# Altium integrated library NEC Peripheral LCD Controller.IntLib: 3 symbols
Pins are listed as number, name and electrical type; pins without a type are passive.

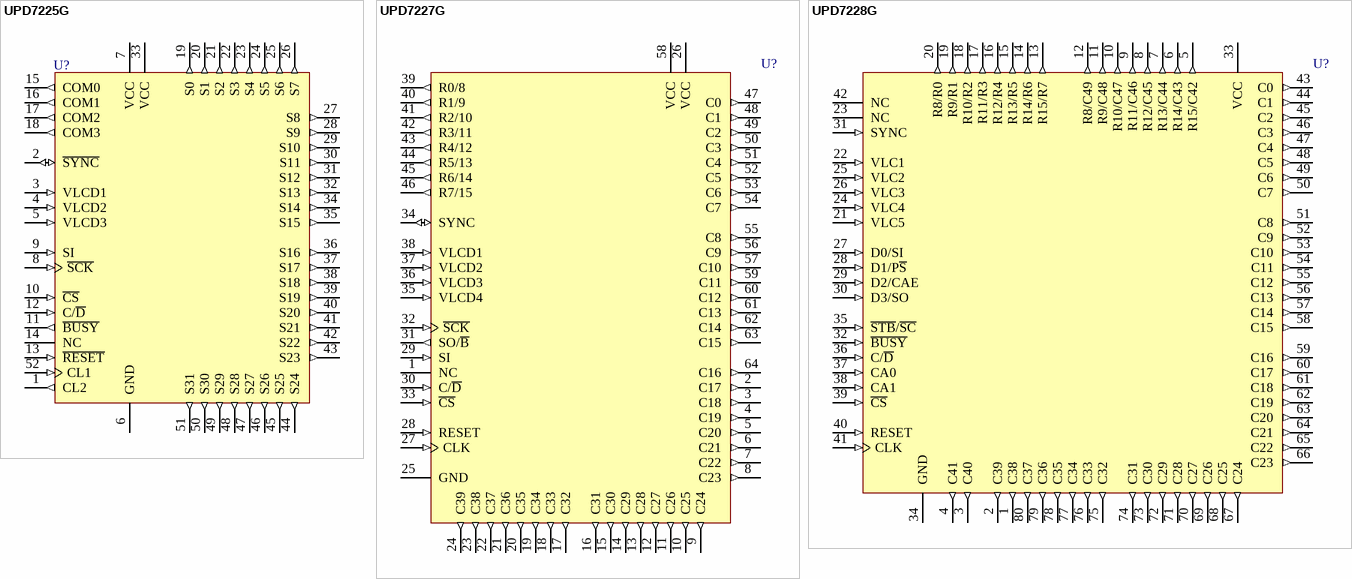
[diagram p0: symbols UPD7225G to UPD7228G]

## UPD7225G
designator U?
Intelligent Alphanumeric LCD Controller/Driver; Note: Pin(s) 14 "No Connection" and not drawn.; Published: 8-Jun-2000; LatestRevisionDate: 13-Apr-2006; LatestRevisionNote: IPC-7351 Footprint Added.; DatasheetVersion: 1984; PackageReference: PMF52; Publisher: Altium Limited; PackageDescription: 52-Pin Quad Flat Pack 1 mm Pitch; ComponentLink1Description: Manufacturer Link; ComponentLink1URL: http://www.necel.com/
footprint PMF52_N (QFP, 52-Leads, Body 14x14mm, Pitch 1mm, IPC Medium Density)
footprint PMF52_L (QFP, 52-Leads, Body 14x14mm, Pitch 1mm, IPC High Density)
footprint PMF52_M (QFP, 52-Leads, Body 14x14mm, Pitch 1mm, IPC Low Density)
pins: 1 CL2 (out), 2 ~{SYNC} (io), 3 VLCD1 (in), 4 VLCD2 (in), 5 VLCD3 (in), 6 GND (power), 7 VCC (power), 8 ~{SCK} (in), 9 SI (in), 10 ~{CS} (in), 11 ~{BUSY} (out), 12 C/~{D} (in), 13 ~{RESET} (in), 14 NC, 15 COM0 (out), 16 COM1 (out), 17 COM2 (out), 18 COM3 (out), 19 S0 (out), 20 S1 (out), 21 S2 (out), 22 S3 (out), 23 S4 (out), 24 S5 (out), 25 S6 (out), 26 S7 (out), 27 S8 (out), 28 S9 (out), 29 S10 (out), 30 S11 (out), 31 S12 (out), 32 S13 (out), 33 VCC (power), 34 S14 (out), 35 S15 (out), 36 S16 (out), 37 S17 (out), 38 S18 (out), 39 S19 (out), 40 S20 (out), 41 S21 (out), 42 S22 (out), 43 S23 (out), 44 S24 (out), 45 S25 (out), 46 S26 (out), 47 S27 (out), 48 S28 (out), 49 S29 (out), 50 S30 (out), 51 S31 (out), 52 CL1 (in)

## UPD7227G
designator U?
Intelligent Dot-Matrix LCD Controller/Driver; Note: Pin(s) 1 "No Connection" and not drawn.; Published: 8-Jun-2000; LatestRevisionDate: 13-Apr-2006; LatestRevisionNote: IPC-7351 Footprint Added.; DatasheetVersion: 1984; PackageVersion: 1983/1984; PackageReference: PMF64; Publisher: Altium Limited; PackageDescription: 64-Pin Quad Flat Pack Rectangular 1 mm Pitch; ComponentLink1Description: Manufacturer Link; ComponentLink1URL: http://www.necel.com/
footprint PMF64_N (QFP, 64-Leads, Body 20x14mm, Pitch 1mm, IPC Medium Density)
footprint PMF64_L (QFP, 64-Leads, Body 20x14mm, Pitch 1mm, IPC High Density)
footprint PMF64_M (QFP, 64-Leads, Body 20x14mm, Pitch 1mm, IPC Low Density)
pins: 1 NC, 2 C17 (out), 3 C18 (out), 4 C19 (out), 5 C20 (out), 6 C21 (out), 7 C22 (out), 8 C23 (out), 9 C24 (out), 10 C25 (out), 11 C26 (out), 12 C27 (out), 13 C28 (out), 14 C29 (out), 15 C30 (out), 16 C31 (out), 17 C32 (out), 18 C33 (out), 19 C34 (out), 20 C35 (out), 21 C36 (out), 22 C37 (out), 23 C38 (out), 24 C39 (out), 25 GND (power), 26 VCC (power), 27 CLK (in), 28 RESET (in), 29 SI (in), 30 C/~{D} (in), 31 SO/~{B} (out), 32 ~{SCK} (in), 33 ~{CS} (in), 34 SYNC (io), 35 VLCD4 (in), 36 VLCD3 (in), 37 VLCD2 (in), 38 VLCD1 (in), 39 R0/8 (out), 40 R1/9 (out), 41 R2/10 (out), 42 R3/11 (out), 43 R4/12 (out), 44 R5/13 (out), 45 R6/14 (out), 46 R7/15 (out), 47 C0 (out), 48 C1 (out), 49 C2 (out), 50 C3 (out), 51 C4 (out), 52 C5 (out), 53 C6 (out), 54 C7 (out), 55 C8 (out), 56 C9 (out), 57 C10 (out), 58 VCC (power), 59 C11 (out), 60 C12 (out), 61 C13 (out), 62 C14 (out), 63 C15 (out), 64 C16 (out)

## UPD7228G
designator U?
Intelligent Dot-Matrix LCD Controller/Driver; Note: Pin(s) 23,42 "No Connection" and not drawn.; Published: 8-Jun-2000; LatestRevisionDate: 13-Apr-2006; LatestRevisionNote: IPC-7351 Footprint Added.; DatasheetVersion: 1984; PackageVersion: 1983/1984; PackageReference: PMF80; Publisher: Altium Limited; PackageDescription: 80-Pin Quad Flat Pack Rectangular 0.8 mm Pitch; ComponentLink1Description: Manufacturer Link; ComponentLink1URL: http://www.necel.com/
footprint PMF80_N (QFP, 80-Leads, Body 20x14mm, Pitch 0.8mm, IPC Medium Density)
footprint PMF80_L (QFP, 80-Leads, Body 20x14mm, Pitch 0.8mm, IPC High Density)
footprint PMF80_M (QFP, 80-Leads, Body 20x14mm, Pitch 0.8mm, IPC Low Density)
pins: 1 C38 (out), 2 C39 (out), 3 C40 (out), 4 C41 (out), 5 R15/C42 (out), 6 R14/C43 (out), 7 R13/C44 (out), 8 R12/C45 (out), 9 R11/C46 (out), 10 R10/C47 (out), 11 R9/C48 (out), 12 R8/C49 (out), 13 R15/R7 (out), 14 R14/R6 (out), 15 R13/R5 (out), 16 R12/R4 (out), 17 R11/R3 (out), 18 R10/R2 (out), 19 R9/R1 (out), 20 R8/R0 (out), 21 VLC5 (in), 22 VLC1 (in), 23 NC, 24 VLC4 (in), 25 VLC2 (in), 26 VLC3 (in), 27 D0/SI (in), 28 D1/P~{S} (in), 29 D2/CAE (in), 30 D3/SO (in), 31 SYNC (in), 32 ~{BUSY} (in), 33 VCC (power), 34 GND (power), 35 ~{STB}/~{SC} (in), 36 C/~{D} (in), 37 CA0 (in), 38 CA1 (in), 39 ~{CS} (in), 40 RESET (in), 41 CLK (in), 42 NC, 43 C0 (out), 44 C1 (out), 45 C2 (out), 46 C3 (out), 47 C4 (out), 48 C5 (out), 49 C6 (out), 50 C7 (out), 51 C8 (out), 52 C9 (out), 53 C10 (out), 54 C11 (out), 55 C12 (out), 56 C13 (out), 57 C14 (out), 58 C15 (out), 59 C16 (out), 60 C17 (out), 61 C18 (out), 62 C19 (out), 63 C20 (out), 64 C21 (out), 65 C22 (out), 66 C23 (out), 67 C24 (out), 68 C25 (out), 69 C26 (out), 70 C27 (out), 71 C28 (out), 72 C29 (out), 73 C30 (out), 74 C31 (out), 75 C32 (out), 76 C33 (out), 77 C34 (out), 78 C35 (out), 79 C36 (out), 80 C37 (out)